# Altium schematic symbol library pwr_switching_led_driver.SchLib: 3 symbols
Pins are listed as number, name and electrical type; pins without a type are passive.

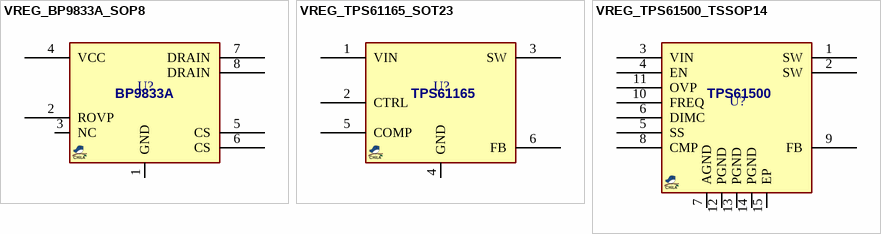
[diagram p0: symbols VREG_BP9833A_SOP8 to VREG_TPS61500_TSSOP14]

## VREG_BP9833A_SOP8
designator U?, comment BP9833A  (value not drawn)
REG, Switching, LED driver, Buck, offline; MANF: BPS; PARAM2: 85~265VacIN, 36~72VDD; PARAM: 350mA, 70KHz, -40~150°C; ASSEMBLY: ASSEMBLY; MANF_P#: BP9833A; VALUE: BP9833A
footprint SO_8 (SOP-8, 5x3.9mm body 1.27mm pitch, SOT96-1, M08A, S8, SOIC8, VO8, MS-012AA(JEDEC), R-8, 8S2, VOG8)
pins: 1 GND, 2 ROVP, 3 NC, 4 VCC, 5 CS, 6 CS, 7 DRAIN, 8 DRAIN

## VREG_TPS61165_SOT23
designator U?, comment TPS61165  (value not drawn)
REG, Switching, LED driver, Boost; MANF: Texas Instruments; MANF_P#: TPS61165DBV; PARAM2: 3~18VIN; PARAM: 1.2A mosfet, 1.2MHz, -40~150°C; ASSEMBLY: ASSEMBLY; PRICE: 0.3$; VALUE: TPS61165
footprint SOT23_6 (SOT-23-6, DDC, DBV, MICRO6, SOT-26, SOT457, SuperSOT6, TSOP-6, HMC313, TSOT, 1.5x3mm, Pitch 0.65mm, CA531, MO-178AB, MO-193AA)
pins: 1 VIN, 2 CTRL, 3 SW, 4 GND, 5 COMP, 6 FB

## VREG_TPS61500_TSSOP14
designator U?, comment TPS61500  (value not drawn)
REG, Switching, LED driver, Boost, up to 24W; MANF: Texas Instruments; MANF_P#: TPS61500PWP; PARAM2: 2.9~18VIN; PARAM: 3A mosfet, 0.2~2.2MHz, -40~150°C; ASSEMBLY: ASSEMBLY; PRICE: 0.3$; VALUE: TPS61500
footprint SOG65_14T (TSSOP 4.4mm(MAXIM), MO-153-ABT (JEDEC), 14Lead, pitch: 0.65mm, 5x4.4x1.2mm)
pins: 1 SW, 2 SW, 3 VIN, 4 EN, 5 SS, 6 DIMC, 7 AGND, 8 CMP, 9 FB, 10 FREQ, 11 OVP, 12 PGND, 13 PGND, 14 PGND, 15 EP